# EAGLE library part ICS511MT (library crasbe)
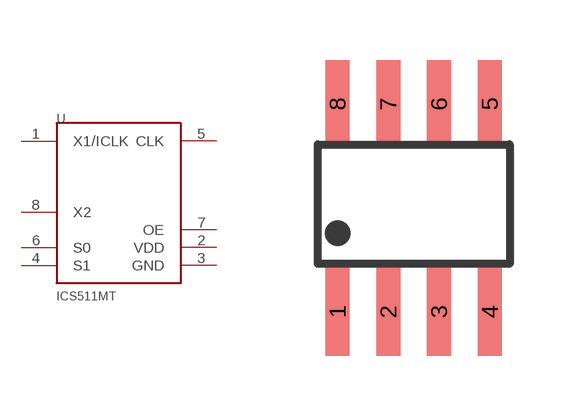
[diagram p25: symbol with the pads of SO-8; footprint SO-8]

Designator prefix -

## ICS511MT  [SO-8]
1  X1/ICLK  in
2  VDD  pwr
3  GND  pwr
4  S1  in
5  CLK  out
6  S0  in
7  OE  in
8  X2  out

## Footprint SO-8 (pad centres in mm)
smd 0.6 x 2.2: 1 -1.905,-2.6; 2 -0.635,-2.6; 3 0.635,-2.6; 4 1.905,-2.6; 5 1.905,2.6; 6 0.635,2.6; 7 -0.635,2.6; 8 -1.905,2.6